# EAGLE library part IDF7509 (library imu1)
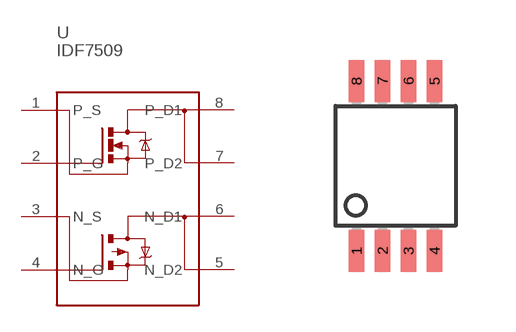
[diagram p5: symbol with the pads of MICRO8; footprint MICRO8]

Designator prefix -

## IDF7509  [MICRO8]
1  P_S
2  P_G
3  N_S
4  N_G
5  N_D2
6  N_D1
7  P_D2
8  P_D1

## Footprint MICRO8 (pad centres in mm)
Micro8 CASE 846A-02 Source: http://www.onsemi.com/pub/Collateral/MC34164-D.PDF
smd 0.38 x 1.05: 1 -0.975,-2.125; 2 -0.325,-2.125; 3 0.325,-2.125; 4 0.975,-2.125; 5 0.975,2.125; 6 0.325,2.125; 7 -0.325,2.125; 8 -0.975,2.125